# EAGLE library part PIN_1X12 (library FaBo-PIN)
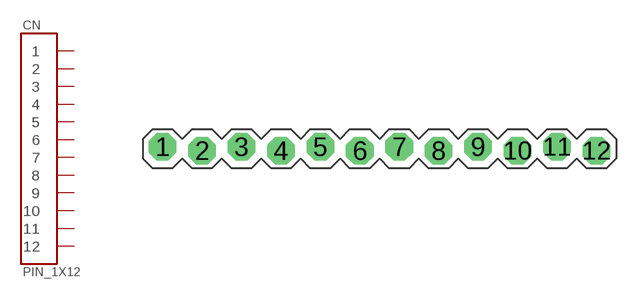
[diagram p4: symbol with the pads of PIN_1X12_SNEAKY; footprint PIN_1X12_SNEAKY]

Designator prefix CN

## PIN_1X12  [PIN_1X12_SNEAKY]
1  1
2  2
3  3
4  4
5  5
6  6
7  7
8  8
9  9
10  10
11  11
12  12

## Footprint PIN_1X12_SNEAKY (pad centres in mm)
drill 1 pad 1.778 octagon: 1 -13.97,0.127; 2 -11.43,-0.127; 3 -8.89,0.127; 4 -6.35,-0.127; 5 -3.81,0.127; 6 -1.27,-0.127; 7 1.27,0.127; 8 3.81,-0.127; 9 6.35,0.127; 10 8.89,-0.127; 11 11.43,0.127; 12 13.97,-0.127